# Altium footprint library Resistor.PcbLib: 14 footprints
Each footprint in its own frame and in the unit in brackets; x right, y up, seen from the top. Pads: shape width x height; smd on the part's side, far side on the other; paste and mask are expansions set on the pad; w line width, h text height; cw(c..) or ccw(c..) is an arc to the next point about the centre after c.
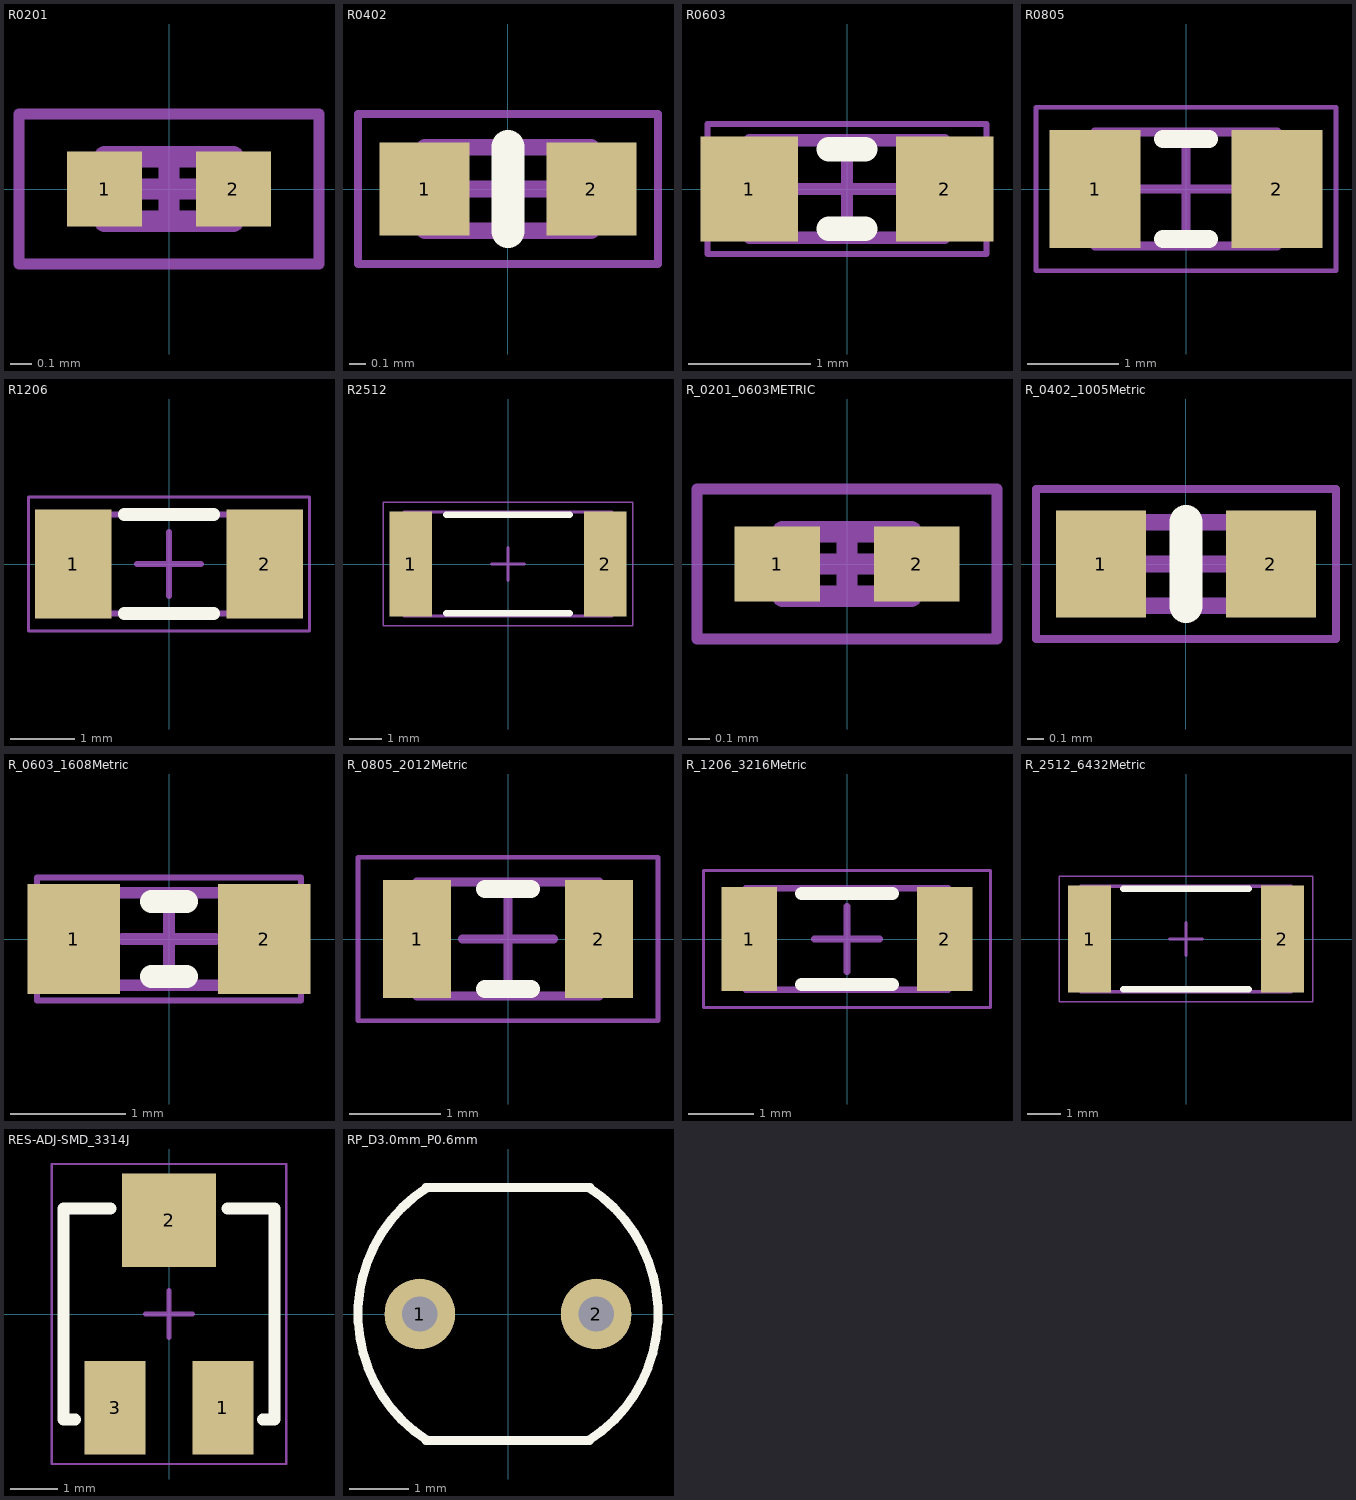
[diagram p0: the footprints below, top view; thin cyan lines are the x and y axes]

## R0201 [mm] "Chip Resistor, 2-Leads, Body 0.60x0.30mm, IPC Medium Density"
height 0.23
pads (2):
  rect 0.35x0.35 smd: 1(-0.3,0) 2(0.3,0)
Mechanical 13:
  lines w0.1: -0.3,-0.15 0.3,-0.15 0.3,0.15 -0.3,0.15 -0.3,-0.15
Mechanical 15:
  lines w0.05: -0.7,-0.35 0.7,-0.35 0.7,0.35 -0.7,0.35 -0.7,-0.35
  lines w0.1: -0.15,0 0.15,0 ; 0,-0.15 0,0.15
3D body "RESC0603X02N.step": height 0.23, standoff 0, extent -0.3,-0.15 0.3,0.15

## R0402 [mm] "Chip Resistor, 2-Leads, Body 1.00x0.50mm, IPC Medium Density"
height 0.5
pads (2):
  rect 0.54x0.56 smd: 1(-0.5,0) 2(0.5,0)
Top Overlay:
  lines w0.2: 0,-0.254 0,0.254
Mechanical 13:
  lines w0.1: -0.5,-0.25 0.5,-0.25 0.5,0.25 -0.5,0.25 -0.5,-0.25
Mechanical 15:
  lines w0.05: -0.9,-0.45 0.9,-0.45 0.9,0.45 -0.9,0.45 -0.9,-0.45
  lines w0.1: -0.25,0 0.25,0 ; 0,-0.25 0,0.25
3D body: height 0.33, standoff 0, extent 0.3,-0.25 0.5,0.25
3D body: height 0.33, standoff 0, extent -0.5,-0.25 -0.3,0.25
3D body: height 0.32, standoff 0, extent -0.3,-0.25 0.3,0.25

## R0603 [mm] "Chip Resistor, 2-Leads, Body 1.60x0.80mm, IPC Medium Density"
height 0.45
pads (2):
  rect 0.8x0.86 smd: 1(-0.8,0) 2(0.8,0)
Top Overlay:
  lines w0.2: -0.15,-0.325 0.15,-0.325 ; -0.15,0.325 0.15,0.325
Mechanical 13:
  lines w0.1: -0.8,-0.4 -0.8,0.4 0.8,0.4 0.8,-0.4 -0.8,-0.4
Mechanical 15:
  lines w0.05: -1.143,-0.533 -1.143,0.533 1.143,0.533 1.143,-0.533 -1.143,-0.533
  lines w0.1: -0.4,0 0.4,0 ; 0,-0.4 0,0.4
3D body: height 0.45, standoff 0, extent -0.55,-0.4 0.55,0.4
3D body: height 0.45, standoff 0, extent -0.8,-0.4 -0.55,0.4
3D body: height 0.45, standoff 0, extent 0.55,-0.4 0.8,0.4

## R0805 [mm] "Chip Resistor, 2-Leads, Body 2.00x1.25mm, IPC Medium Density"
height 0.5
pads (2):
  rect 1x1.3 smd: 1(-1,0) 2(1,0)
Top Overlay:
  lines w0.2: -0.25,-0.55 0.25,-0.55 ; -0.25,0.55 0.25,0.55
Mechanical 13:
  lines w0.1: -1,-0.625 -1,0.625 1,0.625 1,-0.625 -1,-0.625
Mechanical 15:
  lines w0.05: -1.65,-0.9 -1.65,0.9 1.65,0.9 1.65,-0.9 -1.65,-0.9
  lines w0.1: -0.5,0 0.5,0 ; 0,-0.5 0,0.5
3D body "RESC2012X05N.step": height 0.5, standoff 0, extent -1,-0.625 1,0.625

## R1206 [mm] "Chip Resistor, 2-Leads, Body 3.10x1.55mm, IPC Medium Density"
height 0.55
pads (2):
  rect 1.2x1.7 smd: 1(-1.5,0) 2(1.5,0)
Top Overlay:
  lines w0.2: -0.7,-0.775 0.7,-0.775 ; -0.7,0.775 0.7,0.775
Mechanical 13:
  lines w0.1: -1.55,-0.775 -1.55,0.775 1.55,0.775 1.55,-0.775 -1.55,-0.775
Mechanical 15:
  lines w0.05: -2.2,-1.05 -2.2,1.05 2.2,1.05 2.2,-1.05 -2.2,-1.05
  lines w0.1: -0.5,0 0.5,0 ; 0,-0.5 0,0.5
3D body "RESC3116X06N.step": height 0.55, standoff 0, extent -1.55,-0.775 1.55,0.775

## R2512 [mm] "Chip Resistor, 2-Leads, Body 6.40x3.20mm, IPC Medium Density"
height 0.6
pads (2):
  rect 1.3x3.25 smd: 1(-3,0) 2(3,0)
Top Overlay:
  lines w0.2: -1.9,-1.525 1.9,-1.525 ; -1.9,1.525 1.9,1.525
Mechanical 13:
  lines w0.1: -3.2,-1.6 3.2,-1.6 3.2,1.6 -3.2,1.6 -3.2,-1.6
Mechanical 15:
  lines w0.05: -3.85,-1.9 3.85,-1.9 3.85,1.9 -3.85,1.9 -3.85,-1.9
  lines w0.1: -0.5,0 0.5,0 ; 0,-0.5 0,0.5
3D body "RESC6432X06N.step": height 0.6, standoff 0, extent -3.2,-1.6 3.2,1.6

## R_0201_0603METRIC [mm] "Chip Resistor, 2-Leads, Body 0.60x0.30mm, IPC Medium Density"
height 0.23
pads (2):
  rect 0.4x0.35 smd: 1(-0.325,0) 2(0.325,0)
Mechanical 13:
  lines w0.1: -0.3,-0.15 -0.3,0.15 0.3,0.15 0.3,-0.15 -0.3,-0.15
Mechanical 15:
  lines w0.05: -0.7,-0.35 -0.7,0.35 0.7,0.35 0.7,-0.35 -0.7,-0.35
  lines w0.1: -0.15,0 0.15,0 ; 0,-0.15 0,0.15
3D body "RESC0603X02N.step": height 0.23, standoff 0, extent -0.3,-0.15 0.3,0.15

## R_0402_1005Metric [mm] "Chip Resistor, 2-Leads, Body 1.00x0.50mm, IPC Medium Density"
height 0.5
pads (2):
  rect 0.54x0.64 smd: 1(-0.51,0) 2(0.51,0)
Top Overlay:
  lines w0.2: 0,-0.254 0,0.254
Mechanical 13:
  lines w0.1: -0.5,-0.25 0.5,-0.25 0.5,0.25 -0.5,0.25 -0.5,-0.25
Mechanical 15:
  lines w0.05: -0.9,-0.45 0.9,-0.45 0.9,0.45 -0.9,0.45 -0.9,-0.45
  lines w0.1: -0.25,0 0.25,0 ; 0,-0.25 0,0.25
3D body: height 0.33, standoff 0, extent 0.3,-0.25 0.5,0.25
3D body: height 0.33, standoff 0, extent -0.5,-0.25 -0.3,0.25
3D body: height 0.32, standoff 0, extent -0.3,-0.25 0.3,0.25

## R_0603_1608Metric [mm] "Chip Resistor, 2-Leads, Body 1.60x0.80mm, IPC Medium Density"
height 0.45
pads (2):
  rect 0.8x0.95 smd: 1(-0.825,0) 2(0.825,0)
Top Overlay:
  lines w0.2: -0.15,-0.325 0.15,-0.325 ; -0.15,0.325 0.15,0.325
Mechanical 13:
  lines w0.1: -0.8,-0.4 0.8,-0.4 0.8,0.4 -0.8,0.4 -0.8,-0.4
Mechanical 15:
  lines w0.05: -1.143,-0.533 1.143,-0.533 1.143,0.533 -1.143,0.533 -1.143,-0.533
  lines w0.1: -0.4,0 0.4,0 ; 0,-0.4 0,0.4
3D body: height 0.45, standoff 0, extent 0.55,-0.4 0.8,0.4
3D body: height 0.45, standoff 0, extent -0.8,-0.4 -0.55,0.4
3D body: height 0.45, standoff 0, extent -0.55,-0.4 0.55,0.4

## R_0805_2012Metric [mm] "Chip Resistor, 2-Leads, Body 2.00x1.25mm, IPC Medium Density"
height 0.5
pads (2):
  rect 0.75x1.3 smd: 1(-1,0) 2(1,0)
Top Overlay:
  lines w0.2: -0.25,-0.55 0.25,-0.55 ; -0.25,0.55 0.25,0.55
Mechanical 13:
  lines w0.1: -1,-0.625 -1,0.625 1,0.625 1,-0.625 -1,-0.625
Mechanical 15:
  lines w0.05: -1.65,-0.9 -1.65,0.9 1.65,0.9 1.65,-0.9 -1.65,-0.9
  lines w0.1: -0.5,0 0.5,0 ; 0,-0.5 0,0.5
3D body "RESC2012X05N.step": height 0.5, standoff 0, extent -1,-0.625 1,0.625

## R_1206_3216Metric [mm] "Chip Resistor, 2-Leads, Body 3.10x1.55mm, IPC Medium Density"
height 0.55
pads (2):
  rect 0.85x1.6 smd: 1(-1.5,0) 2(1.5,0)
Top Overlay:
  lines w0.2: -0.7,-0.7 0.7,-0.7 ; -0.7,0.7 0.7,0.7
Mechanical 13:
  lines w0.1: -1.55,-0.775 -1.55,0.775 1.55,0.775 1.55,-0.775 -1.55,-0.775
Mechanical 15:
  lines w0.05: -2.2,-1.05 -2.2,1.05 2.2,1.05 2.2,-1.05 -2.2,-1.05
  lines w0.1: -0.5,0 0.5,0 ; 0,-0.5 0,0.5
3D body "RESC3116X06N.step": height 0.55, standoff 0, extent -1.55,-0.775 1.55,0.775

## R_2512_6432Metric [mm] "Chip Resistor, 2-Leads, Body 6.40x3.20mm, IPC Medium Density"
height 0.6
pads (2):
  rect 1.3x3.25 smd: 1(-2.925,0) 2(2.925,0)
Top Overlay:
  lines w0.2: -1.9,-1.525 1.9,-1.525 ; -1.9,1.525 1.9,1.525
Mechanical 13:
  lines w0.1: -3.2,-1.6 3.2,-1.6 3.2,1.6 -3.2,1.6 -3.2,-1.6
Mechanical 15:
  lines w0.05: -3.85,-1.9 3.85,-1.9 3.85,1.9 -3.85,1.9 -3.85,-1.9
  lines w0.1: -0.5,0 0.5,0 ; 0,-0.5 0,0.5
3D body "RESC6432X06N.step": height 0.6, standoff 0, extent -3.2,-1.6 3.2,1.6

## RES-ADJ-SMD_3314J [mm]
pads (3):
  rect 1.3x2 smd: 1(1.15,-2) 3(-1.15,-2)
  rect 2x2 smd: 2(0,2)
Top Overlay:
  lines w0.254: -2,-2.25 -2.25,-2.25 -2.25,2.25 -1.25,2.25 ; 1.25,2.25 2.25,2.25 2.25,-2.25 2,-2.25
Mechanical 15:
  lines w0.05: -2.5,-3.2 2.5,-3.2 2.5,3.2 -2.5,3.2 -2.5,-3.2
  lines w0.1: -0.5,0 0.5,0 ; 0,-0.5 0,0.5
3D body "3314j-2-503e.stp": height 2.77, standoff 0.04, extent -2.5,-2.504 2.5,2.5

## RP_D3.0mm_P0.6mm [mm]
pads (2):
  round 1.2 hole 0.6: 1(-1.5,0) 2(1.5,0)
Top Overlay:
  lines w0.152: -1.391,-2.15 1.385,-2.15 ; -1.391,2.137 ccw(c0,0) -1.385,-2.141 ; -1.391,2.15 1.391,2.15 ; 1.385,-2.141 ccw(c0,0) 1.391,2.137